# EAGLE library part WS2821A (library DECADE-libraries20151104)
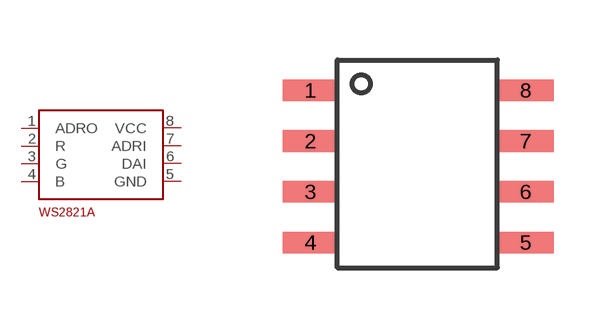
[diagram p114: symbol with the pads of DECADE-SOP8; footprint DECADE-SOP8]

Designator prefix -

## WS2821A  [DECADE-SOP8]
1  ADRO
2  R
3  G
4  B
5  GND
6  DAI
7  ADRI
8  VCC

## Footprint DECADE-SOP8 (pad centres in mm)
smd 1.4 x 0.54: 1 -2.57,4.44; 2 -2.57,3.17; 3 -2.57,1.9; 4 -2.57,0.63; 5 2.81,0.63; 6 2.81,1.9; 7 2.81,3.17; 8 2.81,4.44